# Altium footprint library SmartMCU.PcbLib: 14 footprints
Each footprint in its own frame and in the unit in brackets; x right, y up, seen from the top. Pads: shape width x height; smd on the part's side, far side on the other; paste and mask are expansions set on the pad; w line width, h text height; cw(c..) or ccw(c..) is an arc to the next point about the centre after c.
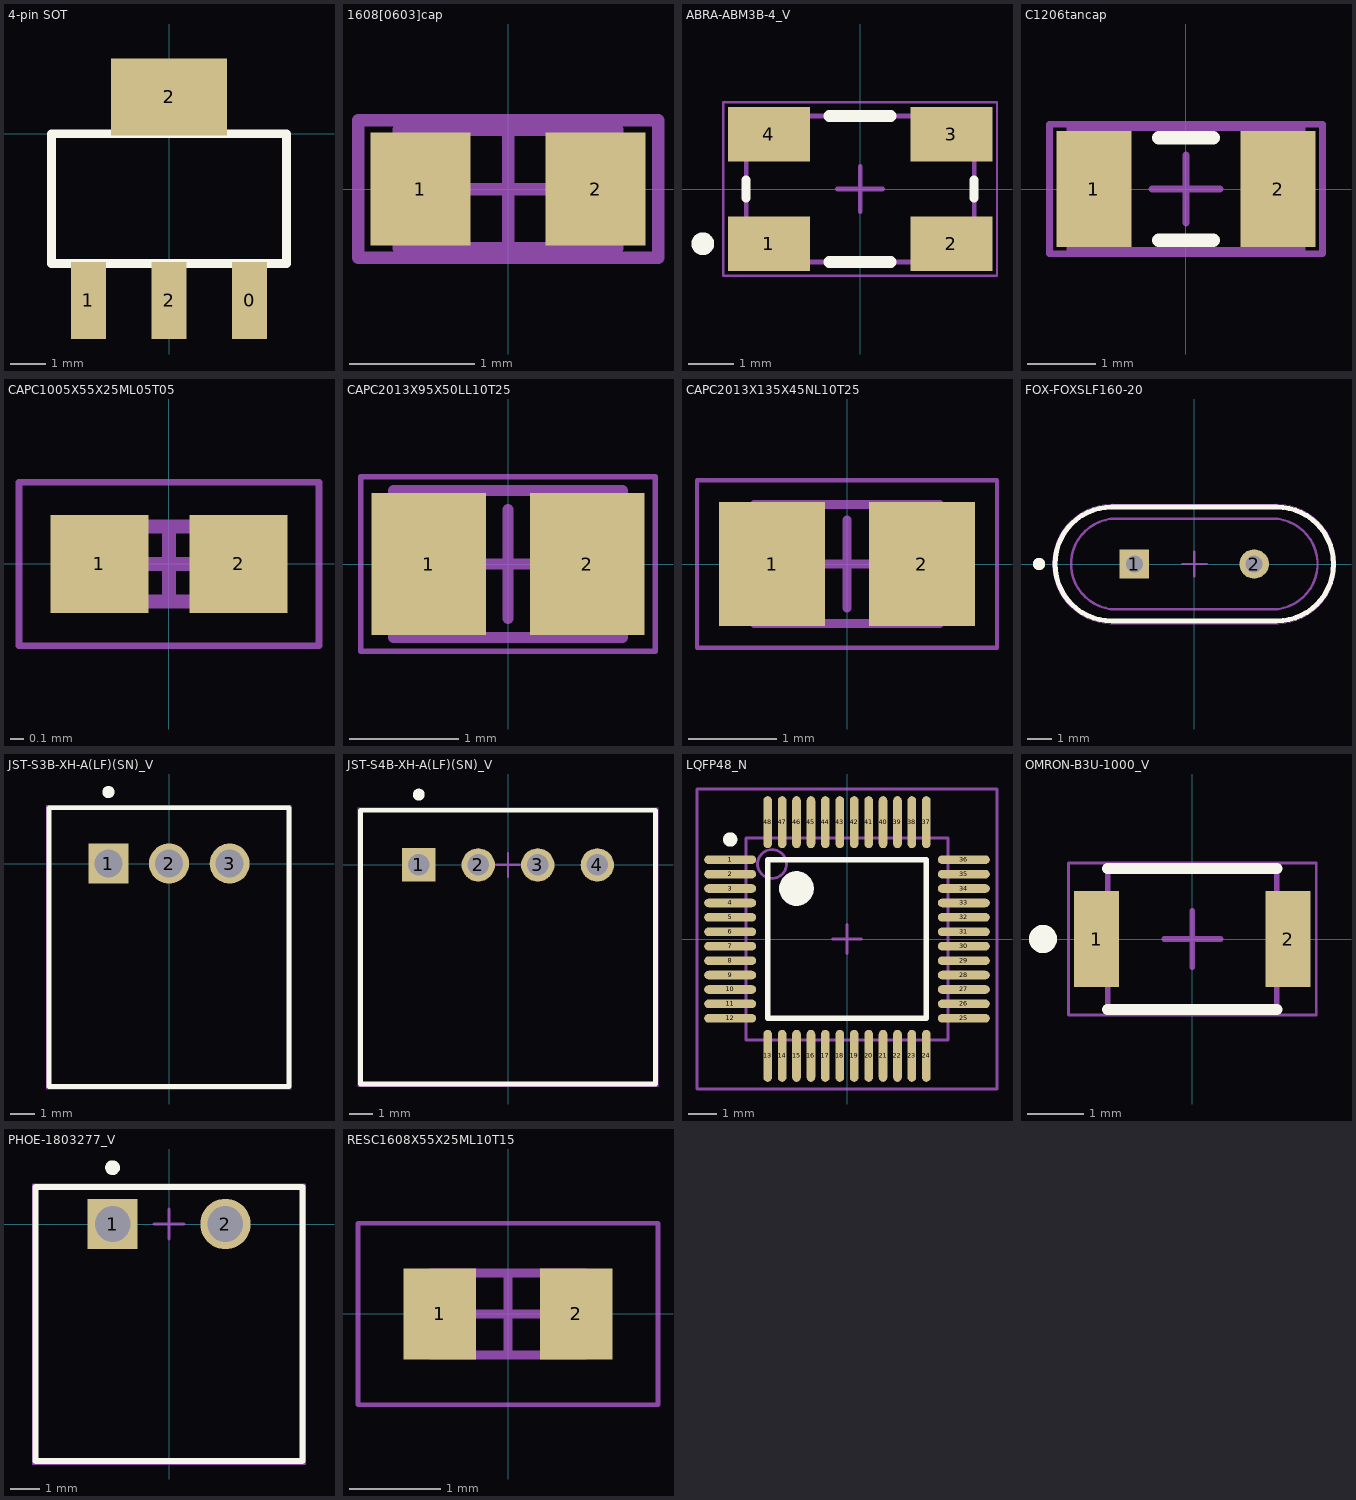
[diagram p0: the footprints below, top view; thin cyan lines are the x and y axes]

## 4-pin SOT [mm]
height 1.7
pads (4):
  rect 1x2.2 smd: 0(2.3,-4.75) 1(-2.3,-4.75) 2(0,-4.75)
  rect 3.3x2.2 smd: 2(0,1.05)
Top Overlay:
  lines w0.254: -3.35,-3.7 3.35,-3.7 3.35,0 -3.35,0 -3.35,-3.7

## 1608[0603]cap [mm]
pads (2):
  rect 0.8x0.9 smd: 1(-0.7,0) 2(0.7,0)
Mechanical 13:
  lines w0.1: -0.875,-0.475 -0.875,0.475 0.875,0.475 0.875,-0.475 -0.875,-0.475
Mechanical 15:
  lines w0.1: -0.475,0 0.475,0 ; 0,-0.475 0,0.475 ; -1.2,-0.55 -1.2,0.55 1.2,0.55 1.2,-0.55 -1.2,-0.55
3D body "User Library-CAPC1608X09.step": height 0.9, standoff 0, extent -0.775,-0.4 0.825,0.4

## ABRA-ABM3B-4_V [mm] "SMD, 4-Leads, Body 5x3.2mm"
height 1.1
pads (4):
  rect 1.8x1.2 smd: 1(-2,-1.2) 2(2,-1.2) 3(2,1.2) 4(-2,1.2)
Top Overlay:
  circle w0.25: c-3.45,-1.2 r0.125
  lines w0.2: -2.5,-0.2 -2.5,0.2 ; 2.5,-0.2 2.5,0.2
  lines w0.254: -0.673,-1.6 0.673,-1.6 ; -0.673,1.6 0.673,1.6
Mechanical 13:
  lines w0.1: -2.5,-1.6 -2.5,1.6 2.5,1.6 2.5,-1.6 -2.5,-1.6
Mechanical 15:
  lines w0.05: -3,-1.9 3,-1.9 3,1.9 -3,1.9 -3,-1.9
  lines w0.1: -0.5,0 0.5,0 ; 0,-0.5 0,0.5
3D body "ABM3B.STEP": height 1.13, standoff 0.01, extent -2.5,-1.587 2.5,1.588

## C1206tancap [mm]
pads (2):
  rect 1.1x1.7 smd: 1(-1.35,0) 2(1.35,0)
Top Overlay:
  lines w0.2: -0.4,-0.75 0.4,-0.75 ; -0.4,0.75 0.4,0.75
Mechanical 13:
  lines w0.1: -1.7,-0.9 1.7,-0.9 1.7,0.9 -1.7,0.9 -1.7,-0.9
Mechanical 15:
  lines w0.1: -0.5,0 0.5,0 ; 0,-0.5 0,0.5 ; -2,-0.95 2,-0.95 2,0.95 -2,0.95 -2,-0.95
3D body "User Library-CAP_TAN_C3216_1206.step": height 1.8, standoff 0, extent -1.7,-0.9 1.7,0.9

## CAPC1005X55X25ML05T05 [mm] "Chip Capacitor, 2-Leads, Body 1.05x0.55mm, IPC Low Density"
height 0.55
pads (2):
  rect 0.72x0.72 smd: 1(-0.51,0) 2(0.51,0)
Mechanical 13:
  lines w0.1: -0.525,-0.275 0.525,-0.275 0.525,0.275 -0.525,0.275 -0.525,-0.275
Mechanical 15:
  lines w0.05: -1.1,-0.6 1.1,-0.6 1.1,0.6 -1.1,0.6 -1.1,-0.6
  lines w0.1: -0.275,0 0.275,0 ; 0,-0.275 0,0.275
3D body "CAPC1005X06M.step": height 0.55, standoff 0, extent -0.525,-0.275 0.525,0.275

## CAPC2013X95X50LL10T25 [mm] "Chip Capacitor, 2-Leads, Body 2.10x1.35mm, IPC High Density"
height 0.95
pads (2):
  rect 1.05x1.3 smd: 1(-0.725,0) 2(0.725,0)
Mechanical 13:
  lines w0.1: -1.05,-0.675 -1.05,0.675 1.05,0.675 1.05,-0.675 -1.05,-0.675
Mechanical 15:
  lines w0.05: -1.35,-0.8 -1.35,0.8 1.35,0.8 1.35,-0.8 -1.35,-0.8
  lines w0.1: -0.5,0 0.5,0 ; 0,-0.5 0,0.5
3D body "CAPC2012X09L.step": height 0.95, standoff 0, extent -1.05,-0.675 1.05,0.675

## CAPC2013X135X45NL10T25 [mm] "Chip Capacitor, 2-Leads, Body 2.10x1.35mm, IPC Medium Density"
height 1.35
pads (2):
  rect 1.2x1.4 smd: 1(-0.85,0) 2(0.85,0)
Mechanical 13:
  lines w0.1: -1.05,-0.675 1.05,-0.675 1.05,0.675 -1.05,0.675 -1.05,-0.675
Mechanical 15:
  lines w0.05: -1.7,-0.95 1.7,-0.95 1.7,0.95 -1.7,0.95 -1.7,-0.95
  lines w0.1: -0.5,0 0.5,0 ; 0,-0.5 0,0.5
3D body "CAPC2012X14N.step": height 1.35, standoff 0, extent -1.05,-0.675 1.05,0.675

## FOX-FOXSLF160-20 [mm] "THD, 2-Leads, Body 11.35x4.65mm"
height 3.6
pads (2):
  rect 1.2x1.2 hole 0.7: 1(-2.44,0)
  round 1.2 hole 0.7: 2(2.44,0)
Top Overlay:
  circle w0.25: c-6.325,0 r0.125
  lines w0.2: -3.35,-2.325 cw(c-3.35,0) -3.35,2.325 3.35,2.325 cw(c3.35,0) 3.35,-2.325 -3.35,-2.325
Mechanical 13:
  lines w0.1: -3.35,-2.325 cw(c-3.35,0) -3.35,2.325 3.35,2.325 cw(c3.35,0) 3.35,-2.325 -3.35,-2.325 ; -3.175,-1.85 cw(c-3.175,0) -3.175,1.85 3.175,1.85 cw(c3.175,0) 3.175,-1.85 -3.175,-1.85
Mechanical 15:
  lines w0.05: -3.45,-2.425 3.45,-2.425 ; -3.45,2.425 3.45,2.425 ; -3.35,-2.425 cw(c-3.35,0) -3.35,2.425 ; 3.35,-2.425 ccw(c3.35,0) 3.35,2.425
  lines w0.1: -0.5,0 0.5,0 ; 0,-0.5 0,0.5
3D body: height 0, standoff -12.7, extent 2.226,-0.214 2.654,0.214
3D body: height 0, standoff -12.7, extent -2.654,-0.214 -2.226,0.214
3D body: height 0.4, standoff 0, extent -5.676,-2.326 5.676,2.326
3D body: height 3.6, standoff 0.4, extent -5.024,-1.849 5.024,1.849

## JST-S3B-XH-A(LF)(SN)_V [mm] "Header, 3-Leads, Body 9.9x11.5mm, Pitch 2.5mm"
height 6.1
pads (3):
  rect 1.65x1.65 hole 1.15: 1(-2.5,0)
  round 1.65 hole 1.15: 2(0,0) 3(2.5,0)
Top Overlay:
  circle w0.25: c-2.5,2.95 r0.125
  lines w0.2: -4.947,2.3 -4.95,2.3 ; -4.95,2.3 4.95,2.3 4.95,-9.2 -4.95,-9.2 -4.95,2.3
Mechanical 13:
  lines w0.1: -4.95,-9.2 -4.95,2.3 4.95,2.3 4.95,-9.2 -4.95,-9.2
Mechanical 15:
  lines w0.05: -5.05,-9.3 -5.05,2.4 5.05,2.4 5.05,-9.3 -5.05,-9.3
  lines w0.1: -0.5,0 0.5,0 ; 0,-0.5 0,0.5
3D body "S3B-XH-A.STEP": height 6.15, standoff -3.4, extent -4.95,-9.2 4.95,2.3

## JST-S4B-XH-A(LF)(SN)_V [mm] "Header, 4-Leads, Body 12.4x11.5mm, Pitch 2.5mm"
height 6.1
pads (4):
  rect 1.4x1.4 hole 0.9: 1(-3.75,0)
  round 1.4 hole 0.9: 2(-1.25,0) 3(1.25,0) 4(3.75,0)
Top Overlay:
  circle w0.25: c-3.75,2.95 r0.125
  lines w0.2: -6.197,2.3 -6.2,2.3 ; -6.2,2.3 -6.2,-9.2 6.2,-9.2 6.2,2.3 -6.2,2.3
Mechanical 13:
  lines w0.1: -6.2,-9.2 6.2,-9.2 6.2,2.3 -6.2,2.3 -6.2,-9.2
Mechanical 15:
  lines w0.05: -6.3,-9.3 6.3,-9.3 6.3,2.4 -6.3,2.4 -6.3,-9.3
  lines w0.1: -0.5,0 0.5,0 ; 0,-0.5 0,0.5
3D body "S4B-XH-A.STEP": height 6.15, standoff -3.4, extent -6.2,-9.2 6.2,2.3

## LQFP48_N [mm] "Thin QFP, 48-Leads, Body 7x7mm, Pitch 0.5mm, IPC Medium Density"
height 1.6
pads (48):
  oval 1.8x0.3 smd: 1(-4.05,2.75) 2(-4.05,2.25) 3(-4.05,1.75) 4(-4.05,1.25) 5(-4.05,0.75) 6(-4.05,0.25) 7(-4.05,-0.25) 8(-4.05,-0.75) 9(-4.05,-1.25) 10(-4.05,-1.75) 11(-4.05,-2.25) 12(-4.05,-2.75) 25(4.05,-2.75) 26(4.05,-2.25) 27(4.05,-1.75) 28(4.05,-1.25) 29(4.05,-0.75) 30(4.05,-0.25) 31(4.05,0.25) 32(4.05,0.75) 33(4.05,1.25) 34(4.05,1.75) 35(4.05,2.25) 36(4.05,2.75)
  oval 0.3x1.8 smd: 13(-2.75,-4.05) 14(-2.25,-4.05) 15(-1.75,-4.05) 16(-1.25,-4.05) 17(-0.75,-4.05) 18(-0.25,-4.05) 19(0.25,-4.05) 20(0.75,-4.05) 21(1.25,-4.05) 22(1.75,-4.05) 23(2.25,-4.05) 24(2.75,-4.05) 37(2.75,4.05) 38(2.25,4.05) 39(1.75,4.05) 40(1.25,4.05) 41(0.75,4.05) 42(0.25,4.05) 43(-0.25,4.05) 44(-0.75,4.05) 45(-1.25,4.05) 46(-1.75,4.05) 47(-2.25,4.05) 48(-2.75,4.05)
Top Overlay:
  circle w0.6: c-1.75,1.75 r0.3
  circle w0.25: c-4.05,3.45 r0.125
  lines w0.2: -2.75,-2.75 2.75,-2.75 2.75,2.75 -2.75,2.75 -2.75,-2.75
Mechanical 13:
  circle w0.1: c-2.6,2.6 r0.5
  lines w0.1: -3.5,-3.5 3.5,-3.5 3.5,3.5 -3.5,3.5 -3.5,-3.5
Mechanical 15:
  lines w0.1: -0.5,0 0.5,0 ; 0,-0.5 0,0.5 ; -5.2,-5.2 5.2,-5.2 5.2,5.2 -5.2,5.2 -5.2,-5.2

## OMRON-B3U-1000_V [mm] "SMD, 2-Leads, Body 3x2.5mm"
height 1.75
pads (2):
  rect 0.8x1.7 smd: 1(-1.7,0) 2(1.7,0)
Top Overlay:
  circle w0.25: c-2.65,0 r0.125
  lines w0.2: -1.5,-1.25 1.5,-1.25 ; -1.5,1.25 1.5,1.25
Mechanical 13:
  lines w0.1: -1.5,-1.25 1.5,-1.25 1.5,1.25 -1.5,1.25 -1.5,-1.25
Mechanical 15:
  lines w0.05: -2.2,-1.35 2.2,-1.35 2.2,1.35 -2.2,1.35 -2.2,-1.35
  lines w0.1: -0.5,0 0.5,0 ; 0,-0.5 0,0.5
3D body: height 1.75, standoff 1.35, extent -0.75,-0.75 0.75,0.75
3D body: height 1.35, standoff 0, extent -1.5,-1.25 1.5,1.25

## PHOE-1803277_V [mm] "CONN, Body 9.2x9.01mm, Pitch 3.81mm"
height 7.25
pads (2):
  rect 1.7x1.7 hole 1.2: 1(-1.905,0)
  round 1.7 hole 1.2: 2(1.905,0)
Top Overlay:
  circle w0.25: c-1.905,1.9 r0.125
  lines w0.2: -4.505,-8 4.505,-8 4.505,1.25 -4.505,1.25 -4.505,-8
Mechanical 13:
  lines w0.1: -4.505,-8 -4.505,1.2 4.505,1.2 4.505,-8 -4.505,-8
Mechanical 15:
  lines w0.05: -4.605,-8.1 4.605,-8.1 4.605,1.35 -4.605,1.35 -4.605,-8.1
  lines w0.1: -0.5,0 0.5,0 ; 0,-0.5 0,0.5
3D body "1803277.stp": height 7.25, standoff -3.4, extent -4.505,-8 4.505,1.3

## RESC1608X55X25ML10T15 [mm] "Chip Resistor, 2-Leads, Body 1.70x0.90mm, IPC Low Density"
height 0.55
pads (2):
  rect 0.8x1 smd: 1(-0.75,0) 2(0.75,0)
Mechanical 13:
  lines w0.1: -0.85,-0.45 0.85,-0.45 0.85,0.45 -0.85,0.45 -0.85,-0.45
Mechanical 15:
  lines w0.05: -1.65,-1 1.65,-1 1.65,1 -1.65,1 -1.65,-1
  lines w0.1: -0.45,0 0.45,0 ; 0,-0.45 0,0.45
3D body "RESC1608X06N.step": height 0.55, standoff 0, extent -0.85,-0.45 0.85,0.45